# EAGLE library part MICROFIT3_VERT_12PIN (library molex)
MOLEX Micro-Fit 3.0™ Vertical Header, 3.00mm Pitch, Dual Row, 12 Circuits, with PCB Polarizing Peg, Gold, Glow Wire Compliant, Black Part Number: 43045-1228 Link <http://www.molex.com/molex/products/datasheet.jsp?part=active/0430451228_PCB_HEADERS.xml>
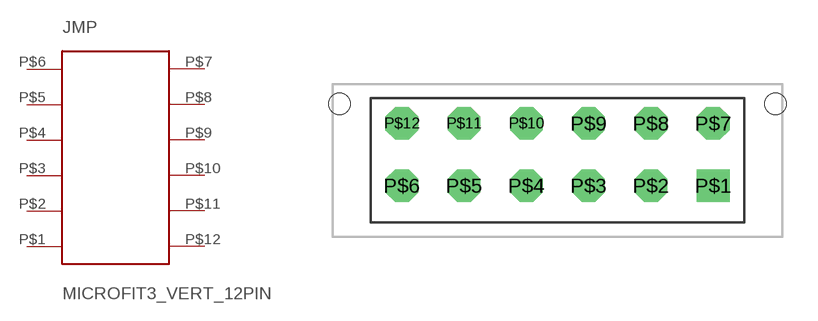
[diagram p6: symbol with the pads of MICROFIT3_VERT_12PIN; footprint MICROFIT3_VERT_12PIN]

Designator prefix JMP

## MICROFIT3_VERT_12PIN43045-1228  [MICROFIT3_VERT_12PIN]
P$1  P$1
P$2  P$2
P$3  P$3
P$4  P$4
P$5  P$5
P$6  P$6
P$7  P$7
P$8  P$8
P$9  P$9
P$10  P$10
P$11  P$11
P$12  P$12

## Footprint MICROFIT3_VERT_12PIN (pad centres in mm)
drill 1.05 square: P$1 7.5,-1.215
drill 1.05 octagon: P$2 4.5,-1.215; P$3 1.5,-1.215; P$4 -1.5,-1.215; P$5 -4.5,-1.215; P$6 -7.5,-1.215; P$7 7.5,1.785; P$8 4.5,1.785; P$9 1.5,1.785; P$10 -1.5,1.785; P$11 -4.5,1.785; P$12 -7.5,1.785
hole 1.05 at -10.5,2.725
hole 1.05 at 10.5,2.725